# Altium schematic symbol library IND_74439358022.SchLib: 1 symbol
Pins are listed as number, name and electrical type; pins without a type are passive.

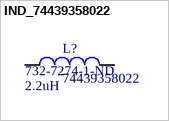
[diagram p0: symbol IND_74439358022]

## IND_74439358022
designator L?, comment 74439358022  value 2.2uH  Supplier Part Number 1: 732-7274-1-ND
2.2µH 20% Shielded Wirewound Inductor 13A 3.7mOhm Nonstandard; Supplier 1: Digi-Key
footprint 74439358022
pins: 1, 2